# Altium schematic symbol library stm32f429vit6.SchLib: 1 symbol
Pins are listed as number, name and electrical type; pins without a type are passive.

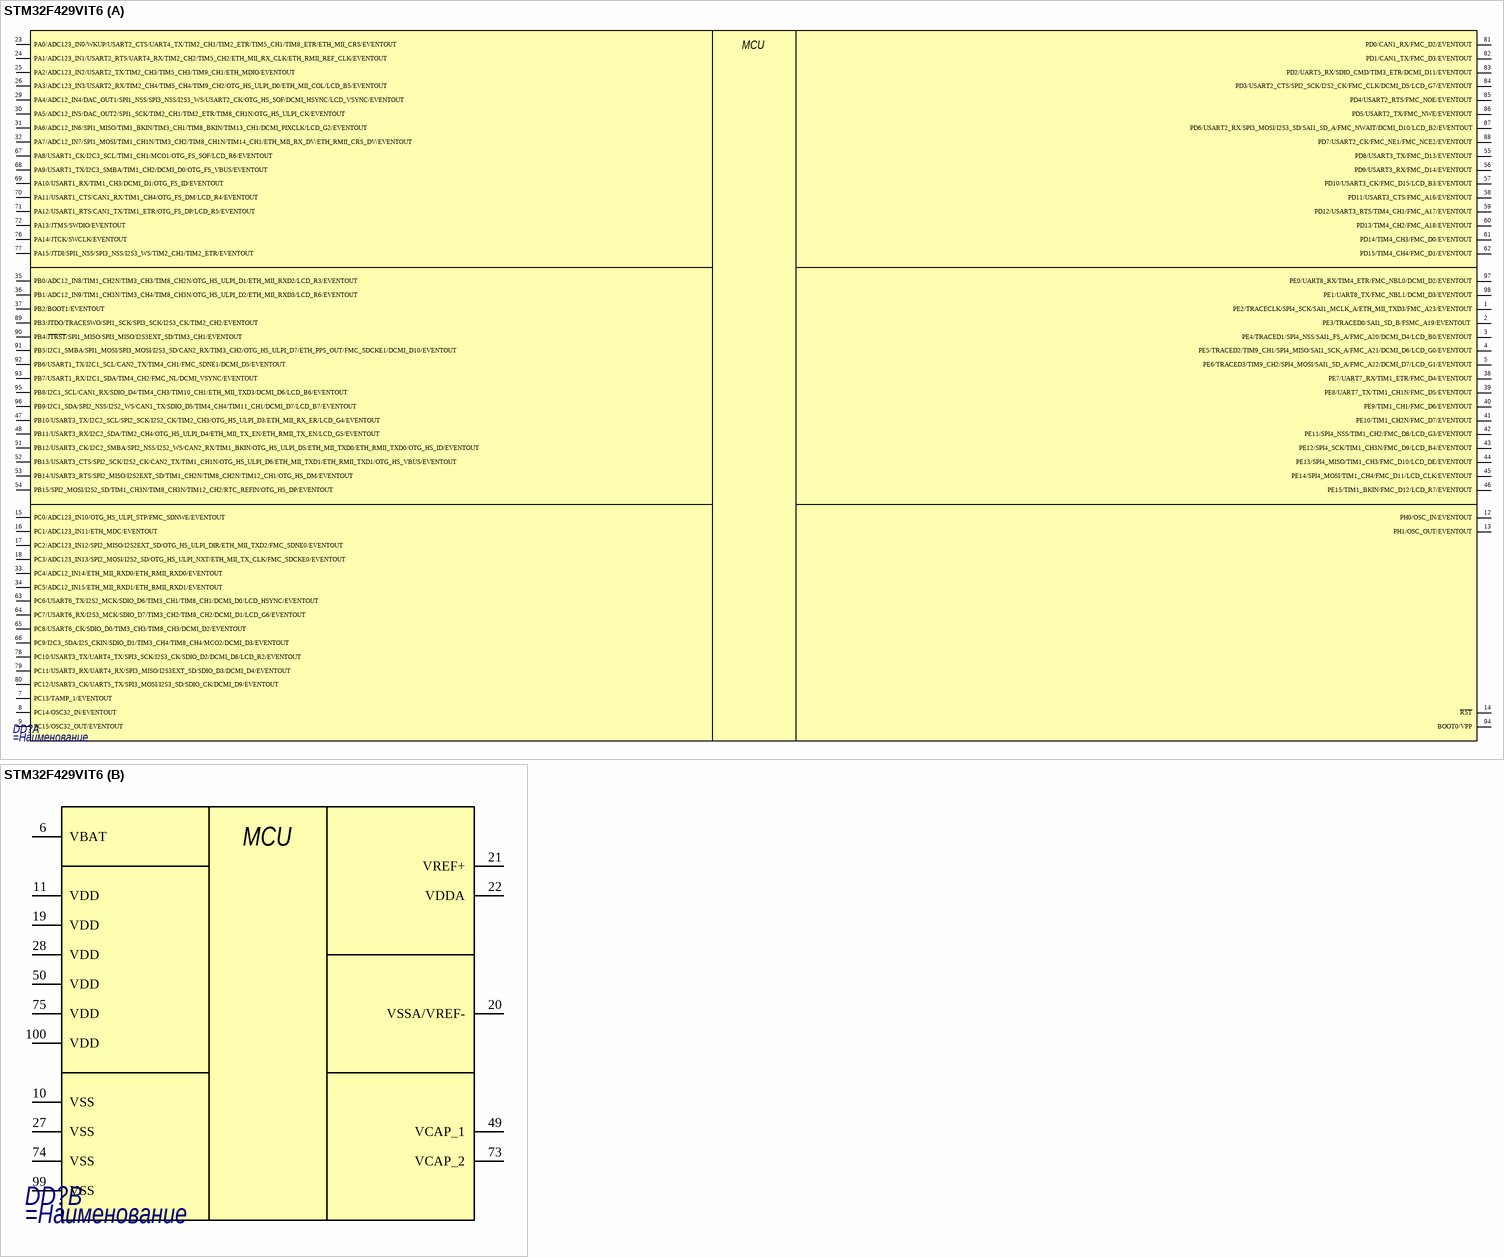
[diagram p0: symbol STM32F429VIT6]

## STM32F429VIT6
designator DD?
=Описание
part A pins: 1 PE2/TRACECLK/SPI4_SCK/SAI1_MCLK_A/ETH_MII_TXD3/FMC_A23/EVENTOUT, 2 PE3/TRACED0/SAI1_SD_B/FSMC_A19/EVENTOUT , 3 PE4/TRACED1/SPI4_NSS/SAI1_FS_A/FMC_A20/DCMI_D4/LCD_B0/EVENTOUT, 4 PE5/TRACED2/TIM9_CH1/SPI4_MISO/SAI1_SCK_A/FMC_A21/DCMI_D6/LCD_G0/EVENTOUT, 5 PE6/TRACED3/TIM9_CH2/SPI4_MOSI/SAI1_SD_A/FMC_A22/DCMI_D7/LCD_G1/EVENTOUT, 7 PC13/TAMP_1/EVENTOUT, 8 PC14/OSC32_IN/EVENTOUT, 9 PC15/OSC32_OUT/EVENTOUT, 12 PH0/OSC_IN/EVENTOUT, 13 PH1/OSC_OUT/EVENTOUT, 14 ~{RST}, 15 PC0/ADC123_IN10/OTG_HS_ULPI_STP/FMC_SDNWE/EVENTOUT, 16 PC1/ADC123_IN11/ETH_MDC/EVENTOUT, 17 PC2/ADC123_IN12/SPI2_MISO/I2S2EXT_SD/OTG_HS_ULPI_DIR/ETH_MII_TXD2/FMC_SDNE0/EVENTOUT, 18 PC3/ADC123_IN13/SPI2_MOSI/I2S2_SD/OTG_HS_ULPI_NXT/ETH_MII_TX_CLK/FMC_SDCKE0/EVENTOUT, 23 PA0/ADC123_IN0/WKUP/USART2_CTS/UART4_TX/TIM2_CH1/TIM2_ETR/TIM5_CH1/TIM8_ETR/ETH_MII_CRS/EVENTOUT, 24 PA1/ADC123_IN1/USART2_RTS/UART4_RX/TIM2_CH2/TIM5_CH2/ETH_MII_RX_CLK/ETH_RMII_REF_CLK/EVENTOUT, 25 PA2/ADC123_IN2/USART2_TX/TIM2_CH3/TIM5_CH3/TIM9_CH1/ETH_MDIO/EVENTOUT, 26 PA3/ADC123_IN3/USART2_RX/TIM2_CH4/TIM5_CH4/TIM9_CH2/OTG_HS_ULPI_D0/ETH_MII_COL/LCD_B5/EVENTOUT, 29 PA4/ADC12_IN4/DAC_OUT1/SPI1_NSS/SPI3_NSS/I2S3_WS/USART2_CK/OTG_HS_SOF/DCMI_HSYNC/LCD_VSYNC/EVENTOUT, 30 PA5/ADC12_IN5/DAC_OUT2/SPI1_SCK/TIM2_CH1/TIM2_ETR/TIM8_CH1N/OTG_HS_ULPI_CK/EVENTOUT, 31 PA6/ADC12_IN6/SPI1_MISO/TIM1_BKIN/TIM3_CH1/TIM8_BKIN/TIM13_CH1/DCMI_PIXCLK/LCD_G2/EVENTOUT, 32 PA7/ADC12_IN7/SPI1_MOSI/TIM1_CH1N/TIM3_CH2/TIM8_CH1N/TIM14_CH1/ETH_MII_RX_DV/ETH_RMII_CRS_DV/EVENTOUT, 33 PC4/ADC12_IN14/ETH_MII_RXD0/ETH_RMII_RXD0/EVENTOUT, 34 PC5/ADC12_IN15/ETH_MII_RXD1/ETH_RMII_RXD1/EVENTOUT, 35 PB0/ADC12_IN8/TIM1_CH2N/TIM3_CH3/TIM8_CH2N/OTG_HS_ULPI_D1/ETH_MII_RXD2/LCD_R3/EVENTOUT, 36 PB1/ADC12_IN9/TIM1_CH3N/TIM3_CH4/TIM8_CH3N/OTG_HS_ULPI_D2/ETH_MII_RXD3/LCD_R6/EVENTOUT, 37 PB2/BOOT1/EVENTOUT, 38 PE7/UART7_RX/TIM1_ETR/FMC_D4/EVENTOUT, 39 PE8/UART7_TX/TIM1_CH1N/FMC_D5/EVENTOUT, 40 PE9/TIM1_CH1/FMC_D6/EVENTOUT, 41 PE10/TIM1_CH2N/FMC_D7/EVENTOUT, 42 PE11/SPI4_NSS/TIM1_CH2/FMC_D8/LCD_G3/EVENTOUT, 43 PE12/SPI4_SCK/TIM1_CH3N/FMC_D9/LCD_B4/EVENTOUT, 44 PE13/SPI4_MISO/TIM1_CH3/FMC_D10/LCD_DE/EVENTOUT, 45 PE14/SPI4_MOSI/TIM1_CH4/FMC_D11/LCD_CLK/EVENTOUT, 46 PE15/TIM1_BKIN/FMC_D12/LCD_R7/EVENTOUT, 47 PB10/USART3_TX/I2C2_SCL/SPI2_SCK/I2S2_CK/TIM2_CH3/OTG_HS_ULPI_D3/ETH_MII_RX_ER/LCD_G4/EVENTOUT, 48 PB11/USART3_RX/I2C2_SDA/TIM2_CH4/OTG_HS_ULPI_D4/ETH_MII_TX_EN/ETH_RMII_TX_EN/LCD_G5/EVENTOUT, 51 PB12/USART3_CK/I2C2_SMBA/SPI2_NSS/I2S2_WS/CAN2_RX/TIM1_BKIN/OTG_HS_ULPI_D5/ETH_MII_TXD0/ETH_RMII_TXD0/OTG_HS_ID/EVENTOUT, 52 PB13/USART3_CTS/SPI2_SCK/I2S2_CK/CAN2_TX/TIM1_CH1N/OTG_HS_ULPI_D6/ETH_MII_TXD1/ETH_RMII_TXD1/OTG_HS_VBUS/EVENTOUT, 53 PB14/USART3_RTS/SPI2_MISO/I2S2EXT_SD/TIM1_CH2N/TIM8_CH2N/TIM12_CH1/OTG_HS_DM/EVENTOUT, 54 PB15/SPI2_MOSI/I2S2_SD/TIM1_CH3N/TIM8_CH3N/TIM12_CH2/RTC_REFIN/OTG_HS_DP/EVENTOUT, 55 PD8/USART3_TX/FMC_D13/EVENTOUT, 56 PD9/USART3_RX/FMC_D14/EVENTOUT, 57 PD10/USART3_CK/FMC_D15/LCD_B3/EVENTOUT, 58 PD11/USART3_CTS/FMC_A16/EVENTOUT, 59 PD12/USART3_RTS/TIM4_CH1/FMC_A17/EVENTOUT, 60 PD13/TIM4_CH2/FMC_A18/EVENTOUT, 61 PD14/TIM4_CH3/FMC_D0/EVENTOUT, 62 PD15/TIM4_CH4/FMC_D1/EVENTOUT, 63 PC6/USART6_TX/I2S2_MCK/SDIO_D6/TIM3_CH1/TIM8_CH1/DCMI_D0/LCD_HSYNC/EVENTOUT, 64 PC7/USART6_RX/I2S3_MCK/SDIO_D7/TIM3_CH2/TIM8_CH2/DCMI_D1/LCD_G6/EVENTOUT, 65 PC8/USART6_CK/SDIO_D0/TIM3_CH3/TIM8_CH3/DCMI_D2/EVENTOUT , 66 PC9/I2C3_SDA/I2S_CKIN/SDIO_D1/TIM3_CH4/TIM8_CH4/MCO2/DCMI_D3/EVENTOUT, 67 PA8/USART1_CK/I2C3_SCL/TIM1_CH1/MCO1/OTG_FS_SOF/LCD_R6/EVENTOUT, 68 PA9/USART1_TX/I2C3_SMBA/TIM1_CH2/DCMI_D0/OTG_FS_VBUS/EVENTOUT, 69 PA10/USART1_RX/TIM1_CH3/DCMI_D1/OTG_FS_ID/EVENTOUT, 70 PA11/USART1_CTS/CAN1_RX/TIM1_CH4/OTG_FS_DM/LCD_R4/EVENTOUT, 71 PA12/USART1_RTS/CAN1_TX/TIM1_ETR/OTG_FS_DP/LCD_R5/EVENTOUT, 72 PA13/JTMS/SWDIO/EVENTOUT, 76 PA14/JTCK/SWCLK/EVENTOUT, 77 PA15/JTDI/SPI1_NSS/SPI3_NSS/I2S3_WS/TIM2_CH1/TIM2_ETR/EVENTOUT, 78 PC10/USART3_TX/UART4_TX/SPI3_SCK/I2S3_CK/SDIO_D2/DCMI_D8/LCD_R2/EVENTOUT, 79 PC11/USART3_RX/UART4_RX/SPI3_MISO/I2S3EXT_SD/SDIO_D3/DCMI_D4/EVENTOUT, 80 PC12/USART3_CK/UART5_TX/SPI3_MOSI/I2S3_SD/SDIO_CK/DCMI_D9/EVENTOUT, 81 PD0/CAN1_RX/FMC_D2/EVENTOUT, 82 PD1/CAN1_TX/FMC_D3/EVENTOUT, 83 PD2/UART5_RX/SDIO_CMD/TIM3_ETR/DCMI_D11/EVENTOUT, 84 PD3/USART2_CTS/SPI2_SCK/I2S2_CK/FMC_CLK/DCMI_D5/LCD_G7/EVENTOUT, 85 PD4/USART2_RTS/FMC_NOE/EVENTOUT, 86 PD5/USART2_TX/FMC_NWE/EVENTOUT, 87 PD6/USART2_RX/SPI3_MOSI/I2S3_SD/SAI1_SD_A/FMC_NWAIT/DCMI_D10/LCD_B2/EVENTOUT, 88 PD7/USART2_CK/FMC_NE1/FMC_NCE2/EVENTOUT, 89 PB3/JTDO/TRACESWO/SPI1_SCK/SPI3_SCK/I2S3_CK/TIM2_CH2/EVENTOUT, 90 PB4/~{JTRST}/SPI1_MISO/SPI3_MISO/I2S3EXT_SD/TIM3_CH1/EVENTOUT, 91 PB5/I2C1_SMBA/SPI1_MOSI/SPI3_MOSI/I2S3_SD/CAN2_RX/TIM3_CH2/OTG_HS_ULPI_D7/ETH_PPS_OUT/FMC_SDCKE1/DCMI_D10/EVENTOUT, 92 PB6/USART1_TX/I2C1_SCL/CAN2_TX/TIM4_CH1/FMC_SDNE1/DCMI_D5/EVENTOUT, 93 PB7/USART1_RX/I2C1_SDA/TIM4_CH2/FMC_NL/DCMI_VSYNC/EVENTOUT, 94 BOOT0/VPP, 95 PB8/I2C1_SCL/CAN1_RX/SDIO_D4/TIM4_CH3/TIM10_CH1/ETH_MII_TXD3/DCMI_D6/LCD_B6/EVENTOUT, 96 PB9/I2C1_SDA/SPI2_NSS/I2S2_WS/CAN1_TX/SDIO_D5/TIM4_CH4/TIM11_CH1/DCMI_D7/LCD_B7/EVENTOUT, 97 PE0/UART8_RX/TIM4_ETR/FMC_NBL0/DCMI_D2/EVENTOUT, 98 PE1/UART8_TX/FMC_NBL1/DCMI_D3/EVENTOUT
part B pins: 6 VBAT, 10 VSS, 11 VDD, 19 VDD, 20 VSSA/VREF-, 21 VREF+, 22 VDDA, 27 VSS, 28 VDD, 49 VCAP_1, 50 VDD, 73 VCAP_2, 74 VSS, 75 VDD, 99 VSS, 100 VDD
part A text: MCU
part B text: MCU